# Altium schematic symbol library Connectors.SchLib: 85 symbols
Pins are listed as number, name and electrical type; pins without a type are passive.

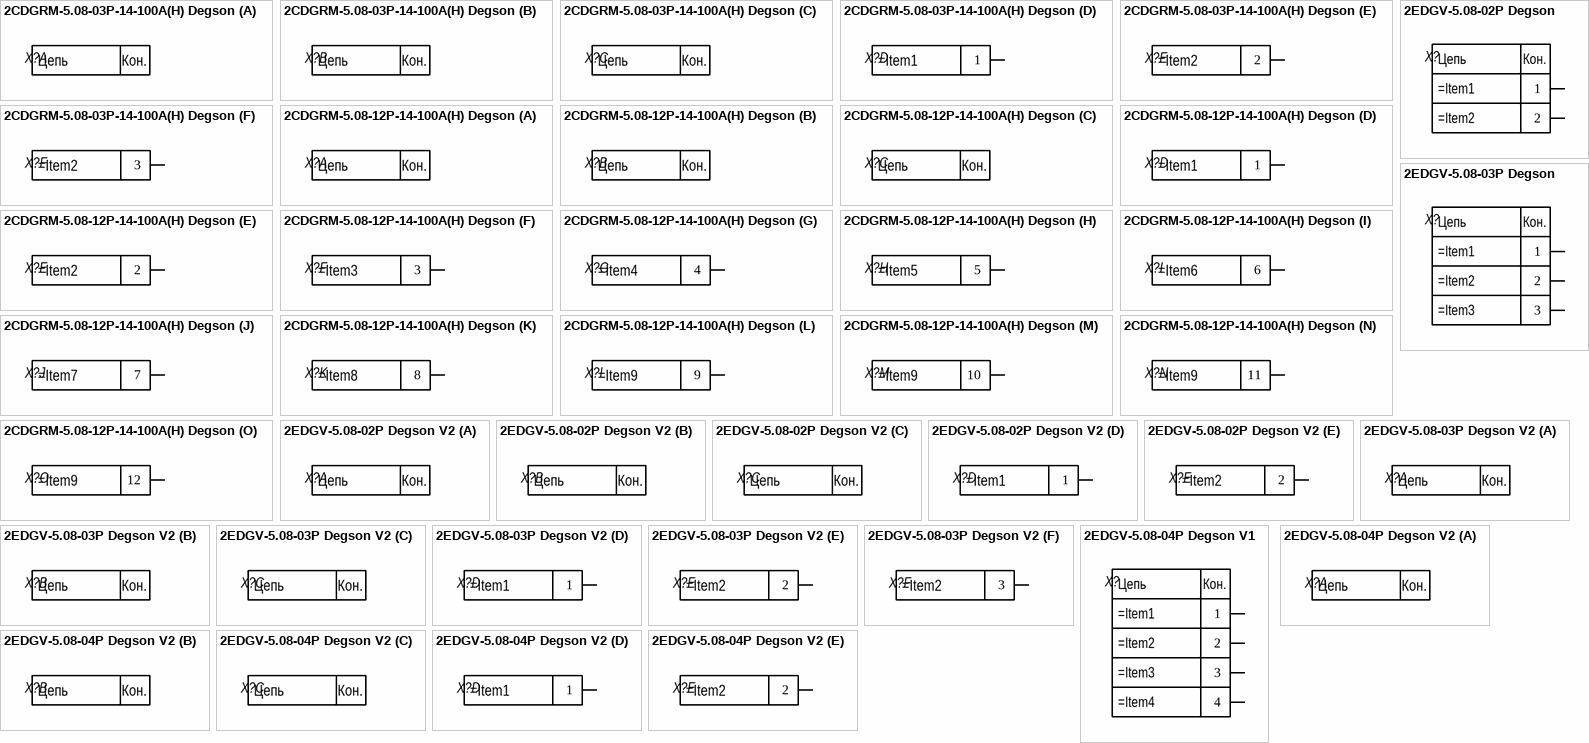
[diagram p0: symbols 2CDGRM-5.08-03P-14-100A(H) Degson to 2EDGV-5.08-04P Degson V2]

## 2CDGRM-5.08-03P-14-100A(H) Degson
designator X?  (value not drawn)
Partnumber: 2EDGV-5.08-03P Degson
footprint 2CDGRM-5.08-03P-14-100A(H)
part D pins: 1
part E pins: 2
part F pins: 3
part A text: Цепь; Кон.
part B text: Цепь; Кон.
part C text: Цепь; Кон.

## 2CDGRM-5.08-12P-14-100A(H) Degson
designator X?  (value not drawn)
Partnumber: =Identifier
footprint 2CDGRM-5.08-12P-14-100A(H)
part D pins: 1
part E pins: 2
part F pins: 3
part G pins: 4
part H pins: 5
part I pins: 6
part J pins: 7
part K pins: 8
part L pins: 9
part M pins: 10
part N pins: 11
part O pins: 12
part A text: Цепь; Кон.
part B text: Цепь; Кон.
part C text: Цепь; Кон.

## 2EDGV-5.08-02P Degson
designator X?  (value not drawn)
Partnumber: 2EDGV-5.08-02P Degson
footprint 2EDGV-5.08-02P
pins: 1, 2
text: Цепь; Кон.

## 2EDGV-5.08-02P Degson V2
designator X?  (value not drawn)
Partnumber: 2EDGV-5.08-02P Degson
footprint 2EDGV-5.08-02P
part D pins: 1
part E pins: 2
part A text: Цепь; Кон.
part B text: Цепь; Кон.
part C text: Цепь; Кон.

## 2EDGV-5.08-03P Degson
designator X?  (value not drawn)
Partnumber: 2EDGV-5.08-03P Degson
footprint 2EDGV-5.08-03P
pins: 1, 2, 3
text: Цепь; Кон.

## 2EDGV-5.08-03P Degson V2
designator X?  (value not drawn)
Partnumber: 2EDGV-5.08-03P Degson
footprint 2EDGV-5.08-03P
part D pins: 1
part E pins: 2
part F pins: 3
part A text: Цепь; Кон.
part B text: Цепь; Кон.
part C text: Цепь; Кон.

## 2EDGV-5.08-04P Degson V1
designator X?  (value not drawn)
Partnumber: 2EDGV-5.08-04P Degson
footprint 2EDGV-5.08-04P
pins: 1, 2, 3, 4
text: Цепь; Кон.

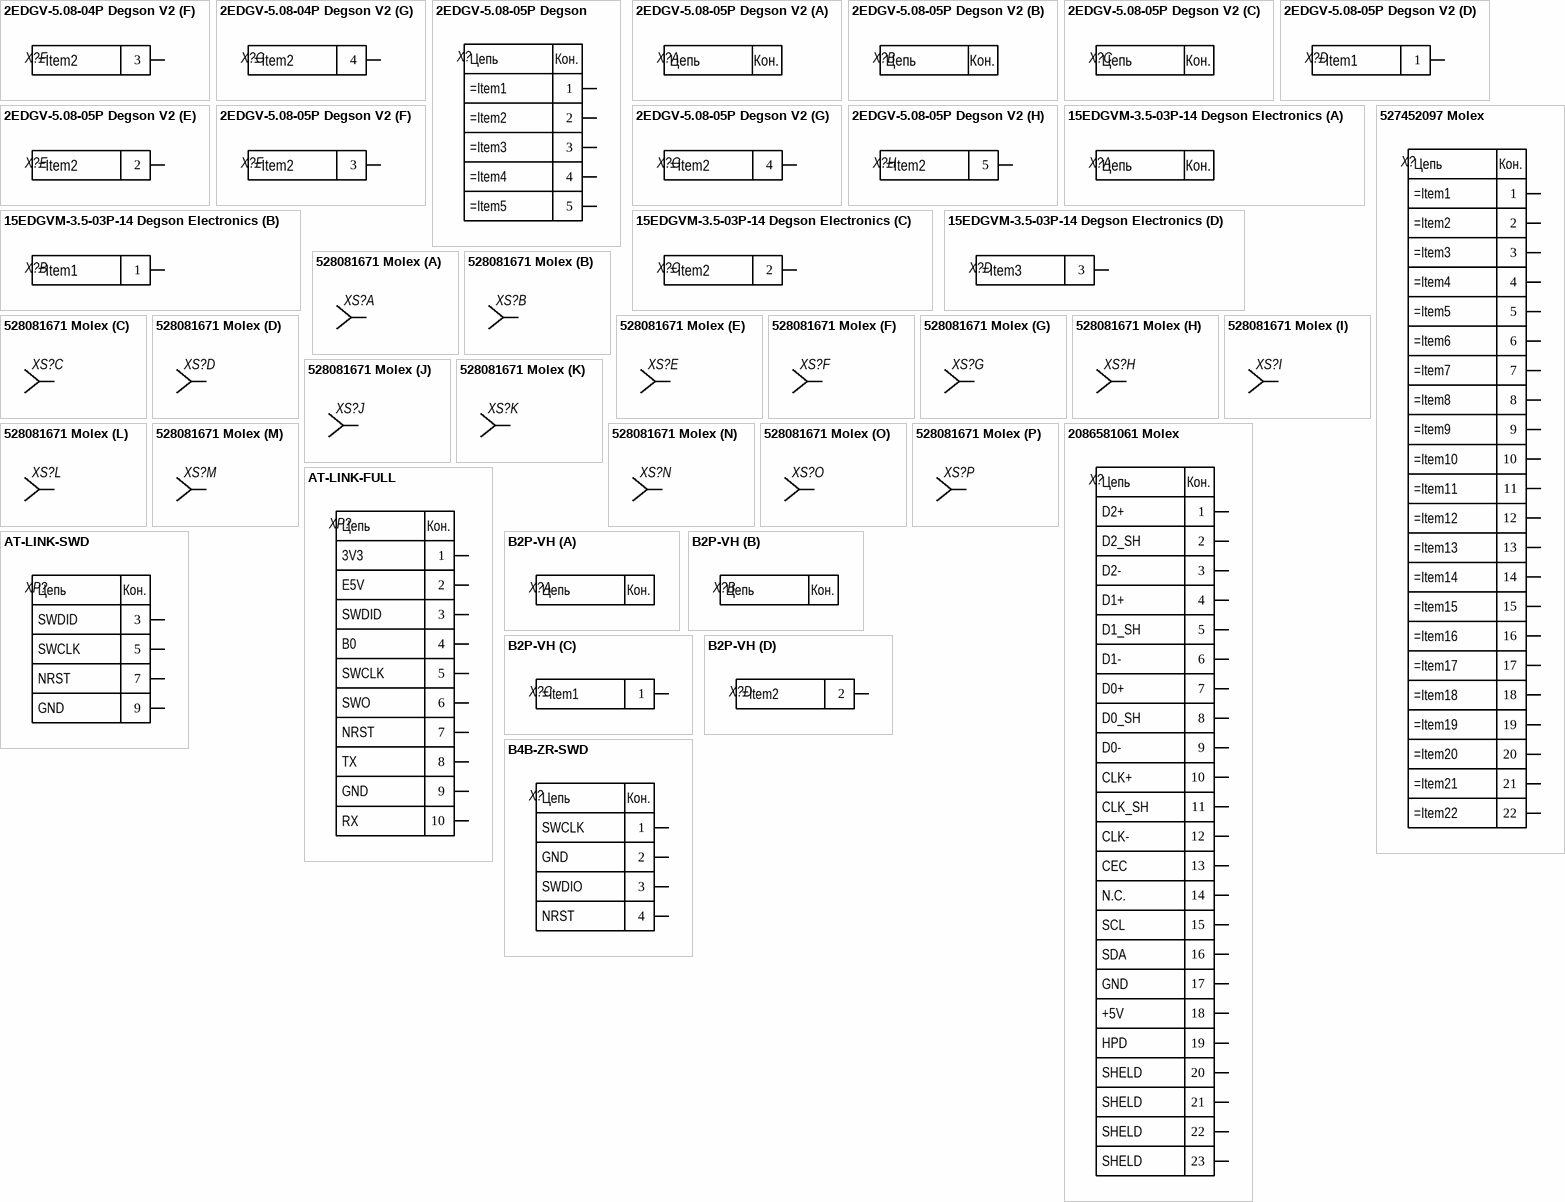
[diagram p1: symbols 2EDGV-5.08-04P Degson V2 to B4B-ZR-SWD]

## 2EDGV-5.08-04P Degson V2
designator X?  (value not drawn)
Partnumber: 2EDGV-5.08-04P Degson
footprint 2EDGV-5.08-04P
part D pins: 1
part E pins: 2
part F pins: 3
part G pins: 4
part A text: Цепь; Кон.
part B text: Цепь; Кон.
part C text: Цепь; Кон.

## 2EDGV-5.08-05P Degson
designator X?  (value not drawn)
Partnumber: 2EDGV-5.08-05P Degson
footprint 2EDGV-5.08-05P
pins: 1, 2, 3, 4, 5
text: Цепь; Кон.

## 2EDGV-5.08-05P Degson V2
designator X?  (value not drawn)
Partnumber: 2EDGV-5.08-05P Degson
footprint 2EDGV-5.08-05P
part D pins: 1
part E pins: 2
part F pins: 3
part G pins: 4
part H pins: 5
part A text: Цепь; Кон.
part B text: Цепь; Кон.
part C text: Цепь; Кон.

## 15EDGVM-3.5-03P-14 Degson Electronics
designator X?  (value not drawn)
Partnumber: =Identifier
footprint 15EDGVM-3.5-03P
part B pins: 1
part C pins: 2
part D pins: 3
part A text: Цепь; Кон.

## 527452097 Molex
designator X?  (value not drawn)
Partnumber: 527452097 Molex
footprint 527452097
pins: 1, 2, 3, 4, 5, 6, 7, 8, 9, 10, 11, 12, 13, 14, 15, 16, 17, 18, 19, 20, 21, 22
text: Цепь; Кон.

## 528081671 Molex
designator XS?  (value not drawn)
Partnumber: =Identifier
footprint 528081671
part A pins: 1
part B pins: 2
part C pins: 3
part D pins: 4
part E pins: 5
part F pins: 6
part G pins: 7
part H pins: 8
part I pins: 9
part J pins: 10
part K pins: 11
part L pins: 12
part M pins: 13
part N pins: 14
part O pins: 15
part P pins: 16

## 2086581061 Molex
designator X?  (value not drawn)
Partnumber: 2086581061 Molex
footprint 2086581061
pins: 1, 2, 3, 4, 5, 6, 7, 8, 9, 10, 11, 12, 13, 14, 15, 16, 17, 18, 19, 20, 21, 22, 23
text: Цепь; Кон.; D2+; D2_SH; D2-; D1+; D1_SH; D1-; D0+; D0_SH; D0-; CLK+; CLK_SH; CLK-; CEC; N.C.; SCL; SDA; GND; +5V; HPD; SHELD

## AT-LINK-FULL
designator XP?  (value not drawn)
Partnumber: IDC-10MS
footprint IDC-10MS
pins: 1, 2, 3, 4, 5, 6, 7, 8, 9, 10
text: Цепь; Кон.; 3V3; E5V; SWDID; B0; SWCLK; SWO; NRST; TX; GND; RX

## AT-LINK-SWD
designator XP?  (value not drawn)
Partnumber: IDC-10MS
footprint IDC-10MS
pins: 3, 5, 7, 9
text: Цепь; Кон.; SWDID; SWCLK; NRST; GND

## B2P-VH
designator X?  (value not drawn)
Partnumber: =Identifier
footprint B2P-VH
part C pins: 1
part D pins: 2
part A text: Цепь; Кон.
part B text: Цепь; Кон.

## B4B-ZR-SWD
designator X?  (value not drawn)
Partnumber: B4B-ZR
footprint B4B-ZR
pins: 1, 2, 3, 4
text: Цепь; Кон.; SWCLK; GND; SWDIO; NRST

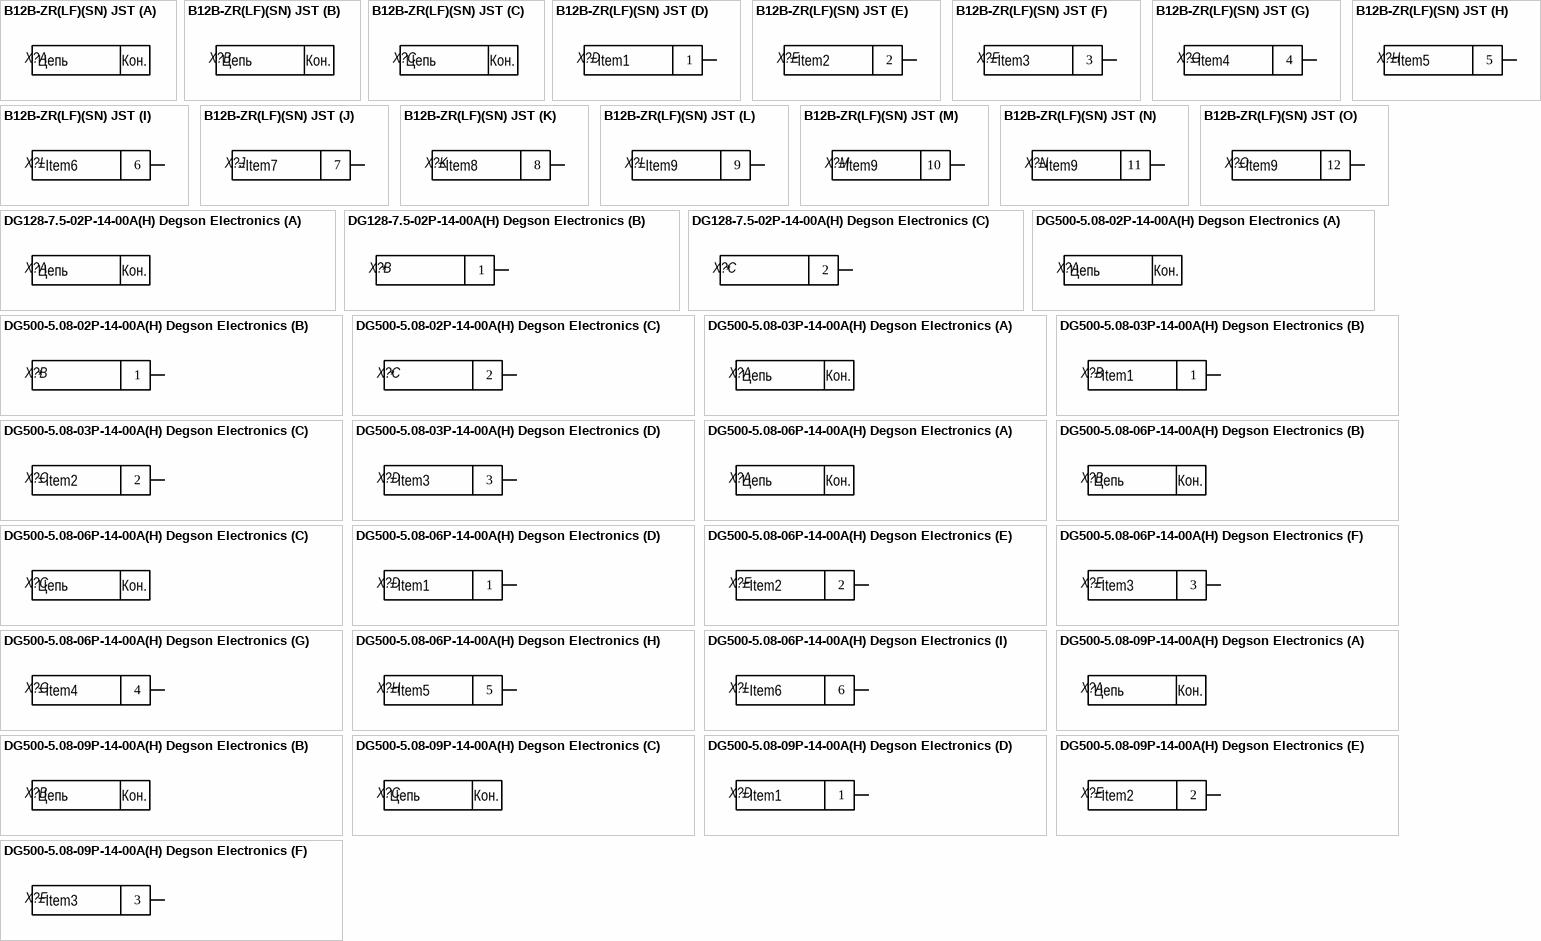
[diagram p2: symbols B12B-ZR(LF)(SN) JST to DG500-5.08-09P-14-00A(H) Degson Electronics]

## B12B-ZR(LF)(SN) JST
designator X?  (value not drawn)
Partnumber: =Identifier
footprint B12B-ZR
part D pins: 1
part E pins: 2
part F pins: 3
part G pins: 4
part H pins: 5
part I pins: 6
part J pins: 7
part K pins: 8
part L pins: 9
part M pins: 10
part N pins: 11
part O pins: 12
part A text: Цепь; Кон.
part B text: Цепь; Кон.
part C text: Цепь; Кон.

## DG128-7.5-02P-14-00A(H) Degson Electronics
designator X?  (value not drawn)
Item1: *; Item2: *; Partnumber: =Identifier
footprint DG128-7.5-02P
part B pins: 1
part C pins: 2
part A text: Цепь; Кон.

## DG500-5.08-02P-14-00A(H) Degson Electronics
designator X?  (value not drawn)
Item1: *; Item2: *; Partnumber: =Identifier
footprint DG500-5.08-02P-14-00A(H)
part B pins: 1
part C pins: 2
part A text: Цепь; Кон.

## DG500-5.08-03P-14-00A(H) Degson Electronics
designator X?  (value not drawn)
Partnumber: =Identifier
footprint DG500-5.08-03P-14-00A(H)
part B pins: 1
part C pins: 2
part D pins: 3
part A text: Цепь; Кон.

## DG500-5.08-06P-14-00A(H) Degson Electronics
designator X?  (value not drawn)
Partnumber: =Identifier
footprint DG500-5.08-06P-14-00A(H)
part D pins: 1
part E pins: 2
part F pins: 3
part G pins: 4
part H pins: 5
part I pins: 6
part A text: Цепь; Кон.
part B text: Цепь; Кон.
part C text: Цепь; Кон.

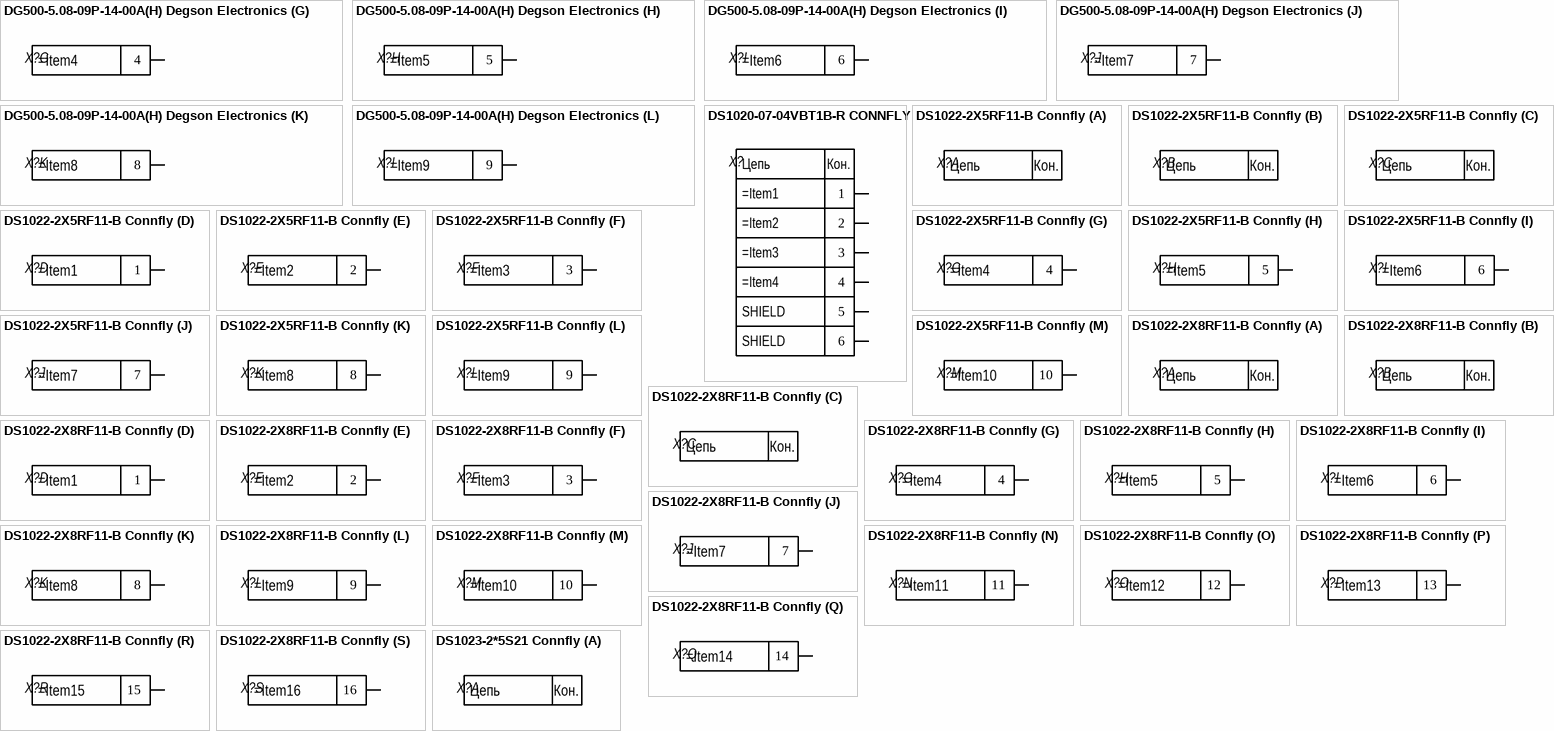
[diagram p3: symbols DG500-5.08-09P-14-00A(H) Degson Electronics to DS1023-2*5S21 Connfly]

## DG500-5.08-09P-14-00A(H) Degson Electronics
designator X?  (value not drawn)
Partnumber: =Identifier
footprint DG500-5.08-09P-14-00A(H)
part D pins: 1
part E pins: 2
part F pins: 3
part G pins: 4
part H pins: 5
part I pins: 6
part J pins: 7
part K pins: 8
part L pins: 9
part A text: Цепь; Кон.
part B text: Цепь; Кон.
part C text: Цепь; Кон.

## DS1020-07-04VBT1B-R CONNFLY
designator X?  (value not drawn)
Partnumber: =Identifier
footprint DS1020-07-04VBT1B-R
pins: 1, 2, 3, 4, 5, 6
text: Цепь; Кон.; SHIELD

## DS1022-2X5RF11-B Connfly
designator X?  (value not drawn)
Partnumber: =Identifier
footprint PLD-10R
part D pins: 1
part E pins: 2
part F pins: 3
part G pins: 4
part H pins: 5
part I pins: 6
part J pins: 7
part K pins: 8
part L pins: 9
part M pins: 10
part A text: Цепь; Кон.
part B text: Цепь; Кон.
part C text: Цепь; Кон.

## DS1022-2X8RF11-B Connfly
designator X?  (value not drawn)
Partnumber: =Identifier
footprint PLD-16R
part D pins: 1
part E pins: 2
part F pins: 3
part G pins: 4
part H pins: 5
part I pins: 6
part J pins: 7
part K pins: 8
part L pins: 9
part M pins: 10
part N pins: 11
part O pins: 12
part P pins: 13
part Q pins: 14
part R pins: 15
part S pins: 16
part A text: Цепь; Кон.
part B text: Цепь; Кон.
part C text: Цепь; Кон.

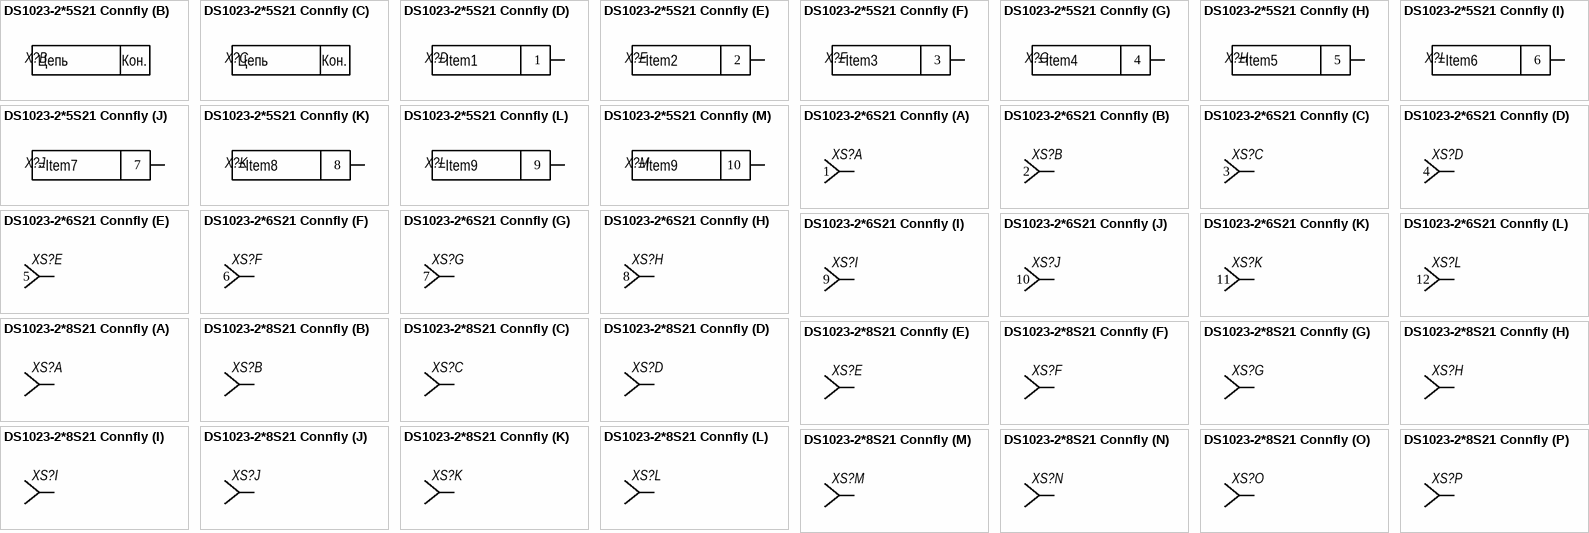
[diagram p4: symbols DS1023-2*5S21 Connfly to DS1023-2*8S21 Connfly]

## DS1023-2*5S21 Connfly
designator X?  (value not drawn)
Partnumber: =Identifier
footprint PBD-10
part D pins: 1
part E pins: 2
part F pins: 3
part G pins: 4
part H pins: 5
part I pins: 6
part J pins: 7
part K pins: 8
part L pins: 9
part M pins: 10
part A text: Цепь; Кон.
part B text: Цепь; Кон.
part C text: Цепь; Кон.

## DS1023-2*6S21 Connfly
designator XS?  (value not drawn)
Partnumber: =Identifier
footprint PBD-12
part A pins: 1
part B pins: 2
part C pins: 3
part D pins: 4
part E pins: 5
part F pins: 6
part G pins: 7
part H pins: 8
part I pins: 9
part J pins: 10
part K pins: 11
part L pins: 12

## DS1023-2*8S21 Connfly
designator XS?  (value not drawn)
Partnumber: =Identifier
footprint PBD-16
part A pins: 1
part B pins: 2
part C pins: 3
part D pins: 4
part E pins: 5
part F pins: 6
part G pins: 7
part H pins: 8
part I pins: 9
part J pins: 10
part K pins: 11
part L pins: 12
part M pins: 13
part N pins: 14
part O pins: 15
part P pins: 16

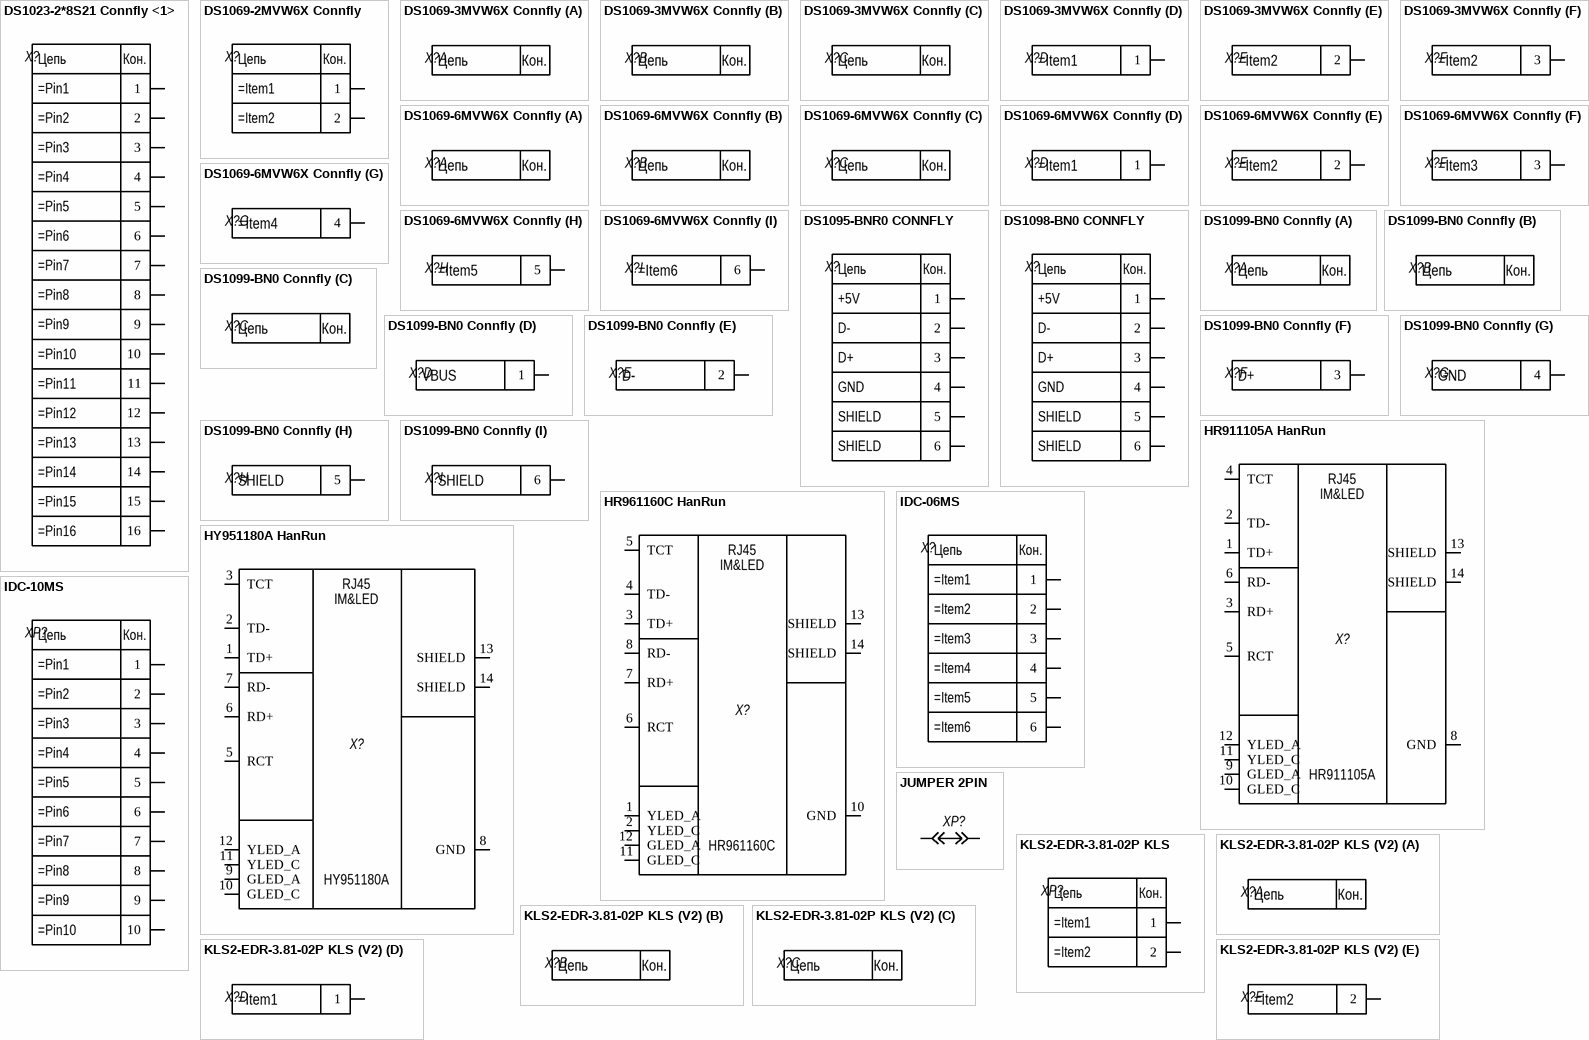
[diagram p5: symbols DS1023-2*8S21 Connfly <1> to KLS2-EDR-3.81-02P KLS (V2)]

## DS1023-2*8S21 Connfly <1>
designator X?  (value not drawn)
Partnumber: IDC-10MS
footprint PBD-16
pins: 1, 2, 3, 4, 5, 6, 7, 8, 9, 10, 11, 12, 13, 14, 15, 16
text: Цепь; Кон.

## DS1069-2MVW6X Connfly
designator X?  (value not drawn)
Partnumber: =Identifier
footprint CWF-2 (3d model: https://www.3dcontentcentral.com/download-model.aspx?catalogid=171&id=1750787)
pins: 1, 2
text: Цепь; Кон.

## DS1069-3MVW6X Connfly
designator X?  (value not drawn)
Partnumber: 2EDGV-5.08-03P Degson
footprint CWF-3 (3d model: https://www.3dcontentcentral.com/download-model.aspx?catalogid=171&id=1750787)
part D pins: 1
part E pins: 2
part F pins: 3
part A text: Цепь; Кон.
part B text: Цепь; Кон.
part C text: Цепь; Кон.

## DS1069-6MVW6X Connfly
designator X?  (value not drawn)
Partnumber: =Identifier
footprint CWF-6 (3d model: https://www.3dcontentcentral.com/download-model.aspx?catalogid=171&id=1750787)
part D pins: 1
part E pins: 2
part F pins: 3
part G pins: 4
part H pins: 5
part I pins: 6
part A text: Цепь; Кон.
part B text: Цепь; Кон.
part C text: Цепь; Кон.

## DS1095-BNR0 CONNFLY
designator X?  (value not drawn)
Partnumber: =Identifier
footprint DS1095-BNR0
pins: 1, 2, 3, 4, 5, 6
text: Цепь; Кон.; +5V; D-; D+; GND; SHIELD

## DS1098-BN0 CONNFLY
designator X?  (value not drawn)
Partnumber: =Identifier
footprint DS1098-BN0
pins: 1, 2, 3, 4, 5, 6
text: Цепь; Кон.; +5V; D-; D+; GND; SHIELD

## DS1099-BN0 Connfly
designator X?  (value not drawn)
Partnumber: DS1099-BN0 Connfly
footprint DS1099-B
part D pins: 1
part E pins: 2
part F pins: 3
part G pins: 4
part H pins: 5
part I pins: 6
part A text: Цепь; Кон.
part B text: Цепь; Кон.
part C text: Цепь; Кон.
part D text: VBUS
part E text: D-
part F text: D+
part G text: GND
part H text: SHIELD
part I text: SHIELD

## HR911105A HanRun
designator X?  (value not drawn)
Partnumber: HR961160C HanRun
footprint HR911105A
pins: 1 TD+, 2 TD-, 3 RD+, 4 TCT, 5 RCT, 6 RD-, 8 GND, 9 GLED_A, 10 GLED_C, 11 YLED_C, 12 YLED_A, 13 SHIELD, 14 SHIELD
text: RJ45; IM&LED; HR911105A

## HR961160C HanRun
designator X?  (value not drawn)
Partnumber: HR961160C HanRun
footprint HR961160C
pins: 1 YLED_A, 2 YLED_C, 3 TD+, 4 TD-, 5 TCT, 6 RCT, 7 RD+, 8 RD-, 10 GND, 11 GLED_C, 12 GLED_A, 13 SHIELD, 14 SHIELD
text: RJ45; IM&LED; HR961160C

## HY951180A HanRun
designator X?  (value not drawn)
Partnumber: HR961160C HanRun
footprint HY951180A
pins: 1 TD+, 2 TD-, 3 TCT, 5 RCT, 6 RD+, 7 RD-, 8 GND, 9 GLED_A, 10 GLED_C, 11 YLED_C, 12 YLED_A, 13 SHIELD, 14 SHIELD
text: RJ45; IM&LED; HY951180A

## IDC-06MS
designator X?  (value not drawn)
Partnumber: =Identifier
footprint IDC-06MS
pins: 1, 2, 3, 4, 5, 6
text: Цепь; Кон.

## IDC-10MS
designator XP?  (value not drawn)
Partnumber: IDC-10MS
footprint IDC-10MS
pins: 1, 2, 3, 4, 5, 6, 7, 8, 9, 10
text: Цепь; Кон.

## JUMPER 2PIN
designator XP?  (value not drawn)
Partnumber: PLS-2
footprint PLS-2
pins: 1, 2

## KLS2-EDR-3.81-02P KLS
designator XP?  (value not drawn)
Partnumber: =Identifier
footprint KLS2-EDR-3.81-02P
pins: 1, 2
text: Цепь; Кон.

## KLS2-EDR-3.81-02P KLS (V2)
designator X?  (value not drawn)
Partnumber: 2EDGV-5.08-02P Degson
footprint KLS2-EDR-3.81-02P
part D pins: 1
part E pins: 2
part A text: Цепь; Кон.
part B text: Цепь; Кон.
part C text: Цепь; Кон.

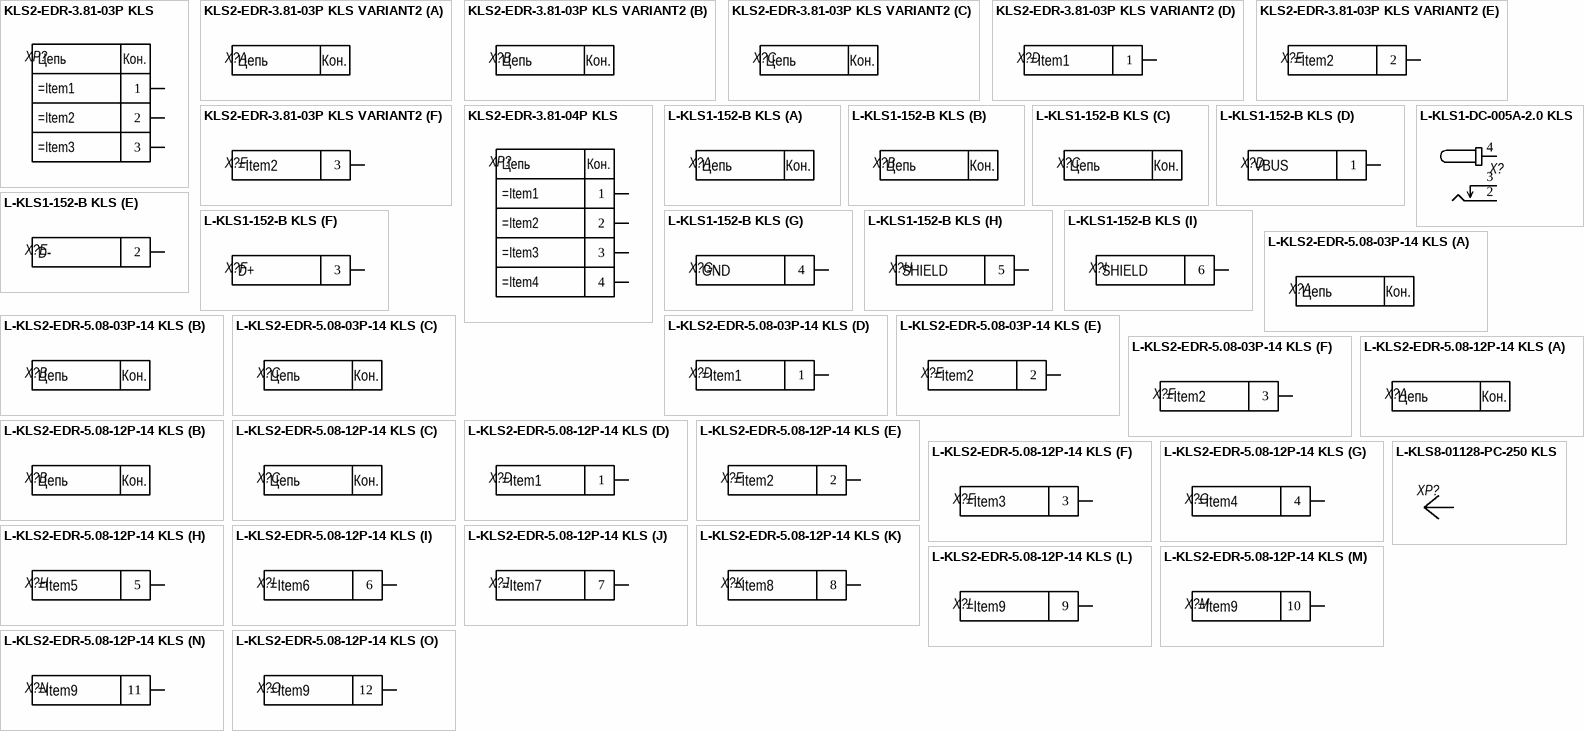
[diagram p6: symbols KLS2-EDR-3.81-03P KLS to L-KLS8-01128-PC-250 KLS]

## KLS2-EDR-3.81-03P KLS
designator XP?  (value not drawn)
Partnumber: =Identifier
footprint KLS2-EDR-3.81-03P
pins: 1, 2, 3
text: Цепь; Кон.

## KLS2-EDR-3.81-03P KLS VARIANT2
designator X?  (value not drawn)
Partnumber: 2EDGV-5.08-03P Degson
footprint KLS2-EDR-3.81-03P
part D pins: 1
part E pins: 2
part F pins: 3
part A text: Цепь; Кон.
part B text: Цепь; Кон.
part C text: Цепь; Кон.

## KLS2-EDR-3.81-04P KLS
designator XP?  (value not drawn)
Partnumber: =Identifier
footprint KLS2-EDR-3.81-04P
pins: 1, 2, 3, 4
text: Цепь; Кон.

## L-KLS1-152-B KLS
designator X?  (value not drawn)
Partnumber: DS1099-BN0 Connfly
footprint L-KLS1-152-B
part D pins: 1
part E pins: 2
part F pins: 3
part G pins: 4
part H pins: 5
part I pins: 6
part A text: Цепь; Кон.
part B text: Цепь; Кон.
part C text: Цепь; Кон.
part D text: VBUS
part E text: D-
part F text: D+
part G text: GND
part H text: SHIELD
part I text: SHIELD

## L-KLS1-DC-005A-2.0 KLS
designator X?  (value not drawn)
footprint KLS1-DC-005A
pins: 2, 3, 4

## L-KLS2-EDR-5.08-03P-14 KLS
designator X?  (value not drawn)
Partnumber: 2EDGV-5.08-03P Degson
footprint L-KLS2-EDR-5.08-03P-14
part D pins: 1
part E pins: 2
part F pins: 3
part A text: Цепь; Кон.
part B text: Цепь; Кон.
part C text: Цепь; Кон.

## L-KLS2-EDR-5.08-12P-14 KLS
designator X?  (value not drawn)
Partnumber: =Identifier
footprint L-KLS2-EDR-5.08-12P-14
part D pins: 1
part E pins: 2
part F pins: 3
part G pins: 4
part H pins: 5
part I pins: 6
part J pins: 7
part K pins: 8
part L pins: 9
part M pins: 10
part N pins: 11
part O pins: 12
part A text: Цепь; Кон.
part B text: Цепь; Кон.
part C text: Цепь; Кон.

## L-KLS8-01128-PC-250 KLS
designator XP?  (value not drawn)
footprint L-KLS8-01128-PC-250
pins: 1

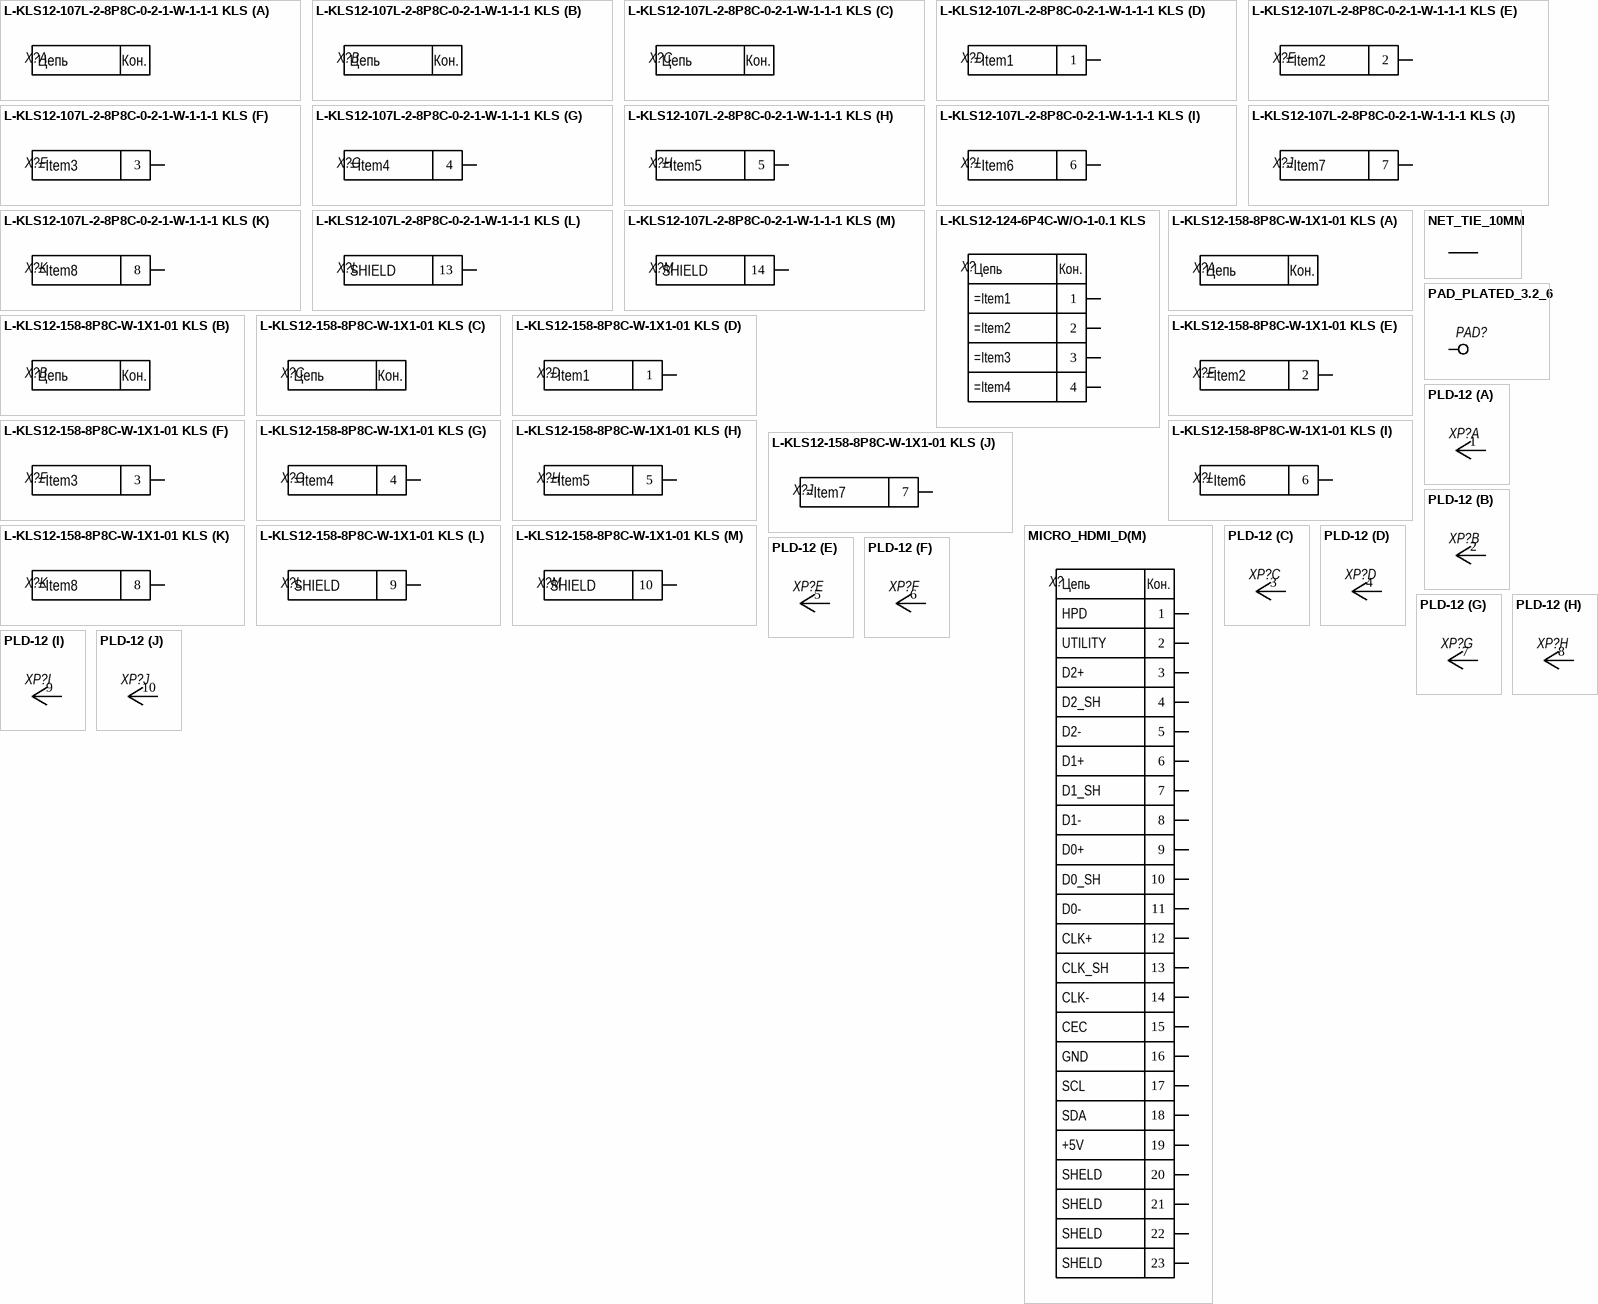
[diagram p7: symbols L-KLS12-107L-2-8P8C-0-2-1-W-1-1-1 KLS to PLD-12]

## L-KLS12-107L-2-8P8C-0-2-1-W-1-1-1 KLS
designator X?  (value not drawn)
Partnumber: =Identifier
footprint KLS12-107L-2-8P8C-0-2-1-W-1-1-1
part D pins: 1
part E pins: 2
part F pins: 3
part G pins: 4
part H pins: 5
part I pins: 6
part J pins: 7
part K pins: 8
part L pins: 13
part M pins: 14
part A text: Цепь; Кон.
part B text: Цепь; Кон.
part C text: Цепь; Кон.
part L text: SHIELD
part M text: SHIELD

## L-KLS12-124-6P4C-W/O-1-0.1 KLS
designator X?  (value not drawn)
Partnumber: L-KLS12-124-6P4C-W/O-1-0.1 KLS
footprint 6P4C_Type1
pins: 1, 2, 3, 4
text: Цепь; Кон.

## L-KLS12-158-8P8C-W-1X1-01 KLS
designator X?  (value not drawn)
Partnumber: =Identifier
footprint KLS12-158-8P8C-W-1x1-01
part D pins: 1
part E pins: 2
part F pins: 3
part G pins: 4
part H pins: 5
part I pins: 6
part J pins: 7
part K pins: 8
part L pins: 9
part M pins: 10
part A text: Цепь; Кон.
part B text: Цепь; Кон.
part C text: Цепь; Кон.
part L text: SHIELD
part M text: SHIELD

## MICRO_HDMI_D(M)
designator X?  (value not drawn)
Partnumber: MICRO_HDMI_D(M)
footprint MICRO_HDMI_D(M)
pins: 1, 2, 3, 4, 5, 6, 7, 8, 9, 10, 11, 12, 13, 14, 15, 16, 17, 18, 19, 20, 21, 22, 23
text: Цепь; Кон.; HPD; UTILITY; D2+; D2_SH; D2-; D1+; D1_SH; D1-; D0+; D0_SH; D0-; CLK+; CLK_SH; CLK-; CEC; GND; SCL; SDA; +5V; SHELD

## NET_TIE_10MM
designator NetTie?  (value not drawn)  (net tie, no BOM)
footprint NET_TIE_10MM
pins: 1, 2

## PAD_PLATED_3.2_6
designator PAD?  (value not drawn)  (no BOM)
footprint PAD_PLATED_3.2_6
pins: 1

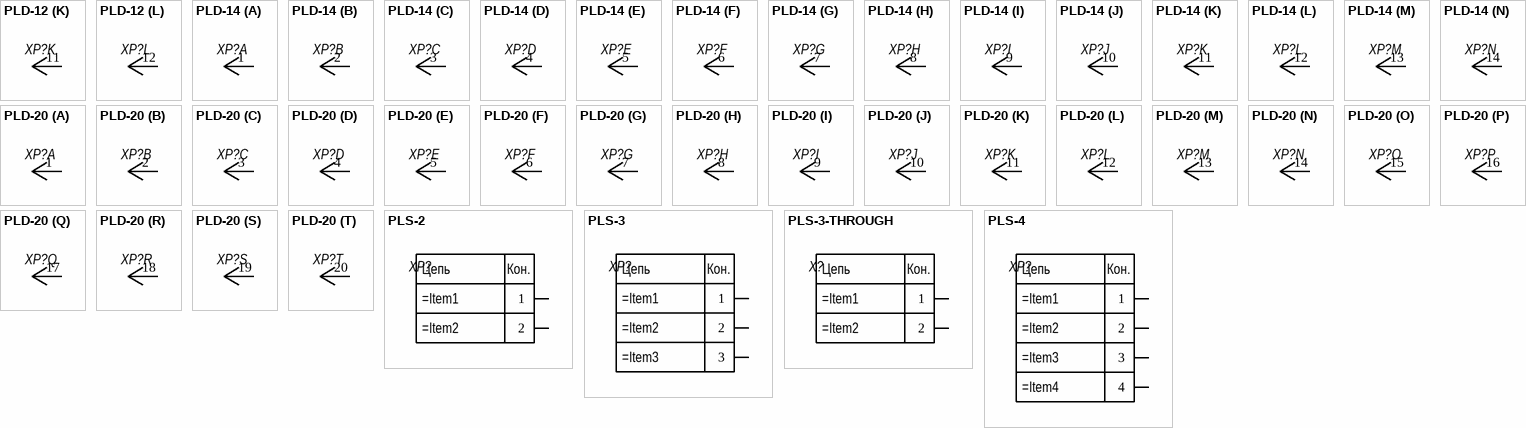
[diagram p8: symbols PLD-12 to PLS-4]

## PLD-12
designator XP?  (value not drawn)
footprint PLD-12
part A pins: 1
part B pins: 2
part C pins: 3
part D pins: 4
part E pins: 5
part F pins: 6
part G pins: 7
part H pins: 8
part I pins: 9
part J pins: 10
part K pins: 11
part L pins: 12

## PLD-14
designator XP?  (value not drawn)
footprint PLD-14
part A pins: 1
part B pins: 2
part C pins: 3
part D pins: 4
part E pins: 5
part F pins: 6
part G pins: 7
part H pins: 8
part I pins: 9
part J pins: 10
part K pins: 11
part L pins: 12
part M pins: 13
part N pins: 14

## PLD-20
designator XP?  (value not drawn)
footprint PLD-20
part A pins: 1
part B pins: 2
part C pins: 3
part D pins: 4
part E pins: 5
part F pins: 6
part G pins: 7
part H pins: 8
part I pins: 9
part J pins: 10
part K pins: 11
part L pins: 12
part M pins: 13
part N pins: 14
part O pins: 15
part P pins: 16
part Q pins: 17
part R pins: 18
part S pins: 19
part T pins: 20

## PLS-2
designator XP?  (value not drawn)
Partnumber: =Identifier
footprint PLS-2
pins: 1, 2
text: Цепь; Кон.

## PLS-3
designator XP?  (value not drawn)
Partnumber: =Identifier
footprint PLS-3
pins: 1, 2, 3
text: Цепь; Кон.

## PLS-3-THROUGH
designator X?  (value not drawn)
Partnumber: PLS-3
footprint PLS-3-THROUGH
pins: 1, 2
text: Цепь; Кон.

## PLS-4
designator XP?  (value not drawn)
Partnumber: =Identifier
footprint PLS-4
pins: 1, 2, 3, 4
text: Цепь; Кон.

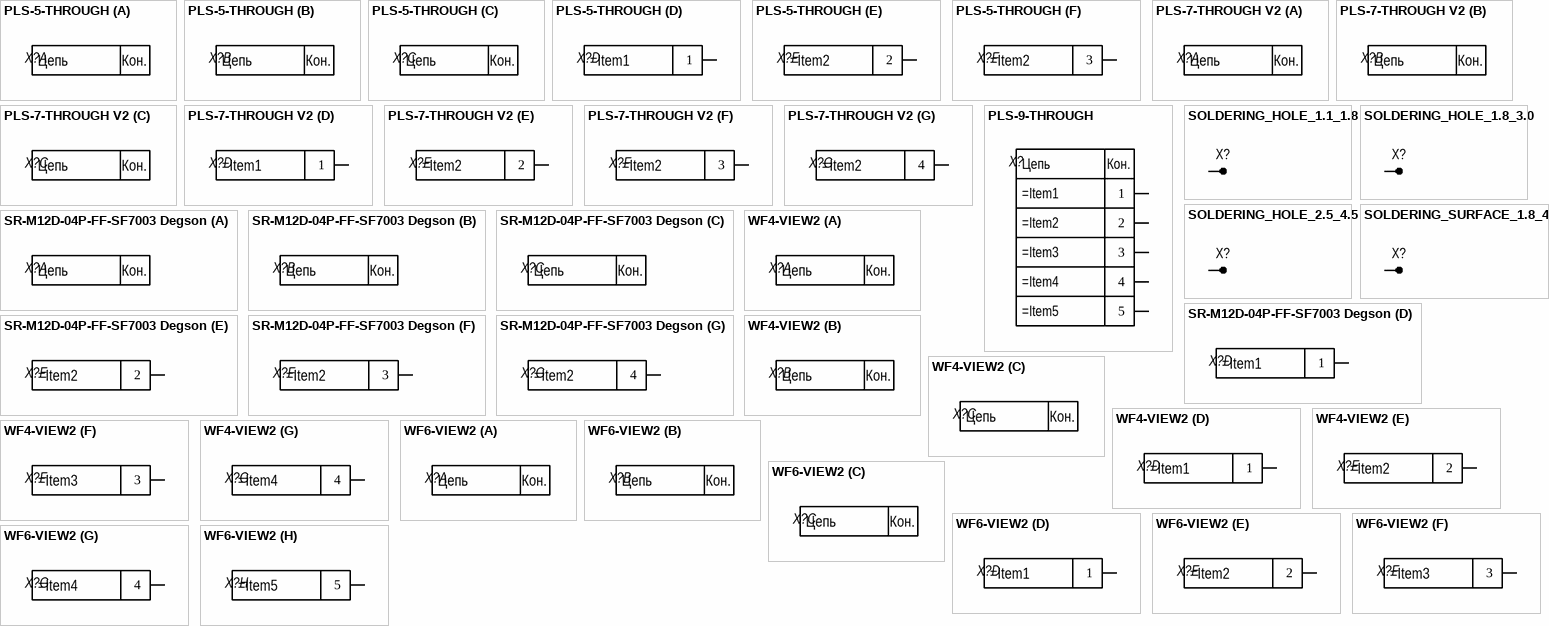
[diagram p9: symbols PLS-5-THROUGH to WF6-VIEW2]

## PLS-5-THROUGH
designator X?  (value not drawn)
Partnumber: PLS-5
footprint PLS-5-THROUGH
part D pins: 1
part E pins: 2
part F pins: 3
part A text: Цепь; Кон.
part B text: Цепь; Кон.
part C text: Цепь; Кон.

## PLS-7-THROUGH V2
designator X?  (value not drawn)
Partnumber: PLS-7
footprint PLS-7-THROUGH
part D pins: 1
part E pins: 2
part F pins: 3
part G pins: 4
part A text: Цепь; Кон.
part B text: Цепь; Кон.
part C text: Цепь; Кон.

## PLS-9-THROUGH
designator X?  (value not drawn)
Partnumber: PLS-9
footprint PLS-9-THROUGH
pins: 1, 2, 3, 4, 5
text: Цепь; Кон.

## SOLDERING_HOLE_1.1_1.8
designator X?  (value not drawn)  (no BOM)
footprint SOLDERING_HOLE_1.1_1.8
pins: 1

## SOLDERING_HOLE_1.8_3.0
designator X?  (value not drawn)  (no BOM)
footprint SOLDERING_HOLE_1.8_3.0
pins: 1

## SOLDERING_HOLE_2.5_4.5
designator X?  (value not drawn)  (no BOM)
footprint SOLDERING_HOLE_2.5_4.5
pins: 1

## SOLDERING_SURFACE_1.8_4.0
designator X?  (value not drawn)  (no BOM)
footprint SOLDERING_SURFACE_1.8_4.0
pins: 1

## SR-M12D-04P-FF-SF7003 Degson
designator X?  (value not drawn)
Partnumber: 2EDGV-5.08-04P Degson
footprint SR-M12D-04P-FF-SF7003
part D pins: 1
part E pins: 2
part F pins: 3
part G pins: 4
part A text: Цепь; Кон.
part B text: Цепь; Кон.
part C text: Цепь; Кон.

## WF4-VIEW2
designator X?  (value not drawn)
Partnumber: =Identifier
footprint WF-4
part D pins: 1
part E pins: 2
part F pins: 3
part G pins: 4
part A text: Цепь; Кон.
part B text: Цепь; Кон.
part C text: Цепь; Кон.

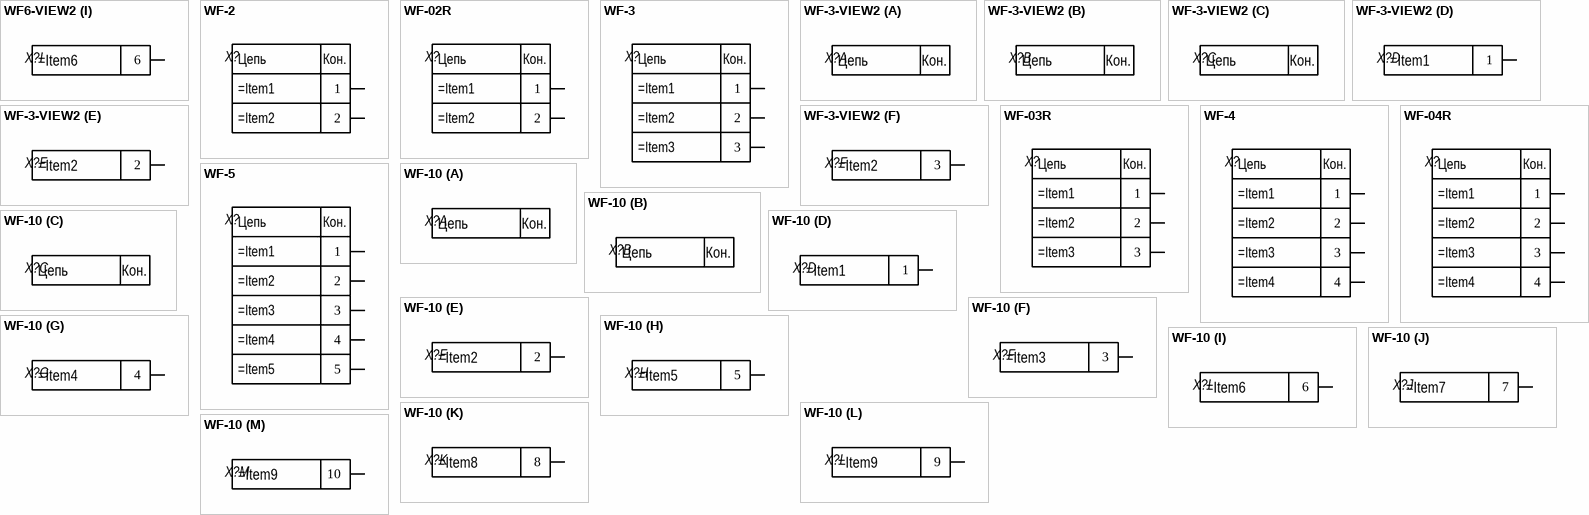
[diagram p10: symbols WF6-VIEW2 to WF-10]

## WF6-VIEW2
designator X?  (value not drawn)
Partnumber: =Identifier
footprint WF-6
part D pins: 1
part E pins: 2
part F pins: 3
part G pins: 4
part H pins: 5
part I pins: 6
part A text: Цепь; Кон.
part B text: Цепь; Кон.
part C text: Цепь; Кон.

## WF-2
designator X?  (value not drawn)
Partnumber: =Identifier
footprint WF-2
pins: 1, 2
text: Цепь; Кон.

## WF-02R
designator X?  (value not drawn)
Partnumber: 2EDGV-5.08-02P Degson
footprint WF-02R
pins: 1, 2
text: Цепь; Кон.

## WF-3
designator X?  (value not drawn)
Partnumber: =Identifier
footprint WF-3
pins: 1, 2, 3
text: Цепь; Кон.

## WF-3-VIEW2
designator X?  (value not drawn)
Partnumber: PLS-5
footprint WF-3
part D pins: 1
part E pins: 2
part F pins: 3
part A text: Цепь; Кон.
part B text: Цепь; Кон.
part C text: Цепь; Кон.

## WF-03R
designator X?  (value not drawn)
Partnumber: 2EDGV-5.08-03P Degson
footprint WF-03R
pins: 1, 2, 3
text: Цепь; Кон.

## WF-4
designator X?  (value not drawn)
Partnumber: =Identifier
footprint WF-4
pins: 1, 2, 3, 4
text: Цепь; Кон.

## WF-04R
designator X?  (value not drawn)
Partnumber: 2EDGV-5.08-04P Degson
footprint WF-04R
pins: 1, 2, 3, 4
text: Цепь; Кон.

## WF-5
designator X?  (value not drawn)
Partnumber: =Identifier
footprint WF-5
pins: 1, 2, 3, 4, 5
text: Цепь; Кон.

## WF-10
designator X?  (value not drawn)
Partnumber: =Identifier
footprint WF-10
part D pins: 1
part E pins: 2
part F pins: 3
part G pins: 4
part H pins: 5
part I pins: 6
part J pins: 7
part K pins: 8
part L pins: 9
part M pins: 10
part A text: Цепь; Кон.
part B text: Цепь; Кон.
part C text: Цепь; Кон.